# Altium schematic symbol library MSMD300.SchLib: 1 symbol
Pins are listed as number, name and electrical type; pins without a type are passive.

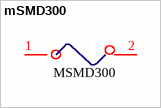
[diagram p0: symbol mSMD300]

## mSMD300
designator *  (value not drawn)
pins: 1, 2
text: MSMD300